# EAGLE library part HDC2080DMBT (library SamacSys_Parts)
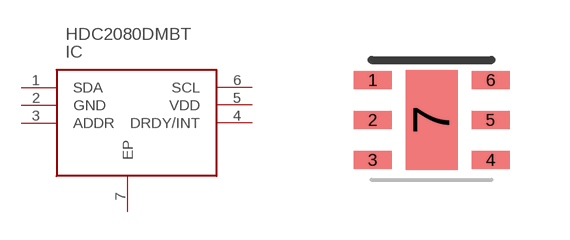
[diagram p18: symbol with the pads of WSON-0.8; footprint WSON-0.8]

Designator prefix IC

## HDC2080DMBT  [WSON-0.8]
1  SDA
2  GND  pwr
3  ADDR
4  DRDY/INT
5  VDD  pwr
6  SCL
7  EP

## Footprint WSON-0.8 (pad centres in mm)
DMB0006A
smd 0.95 x 0.45: 1 -1.475,1; 2 -1.475,0; 3 -1.475,-1; 4 1.475,-1; 5 1.475,0; 6 1.475,1
smd 1.3 x 2.5: 7 0,0